# EAGLE library part LAN8742A (library mchair)
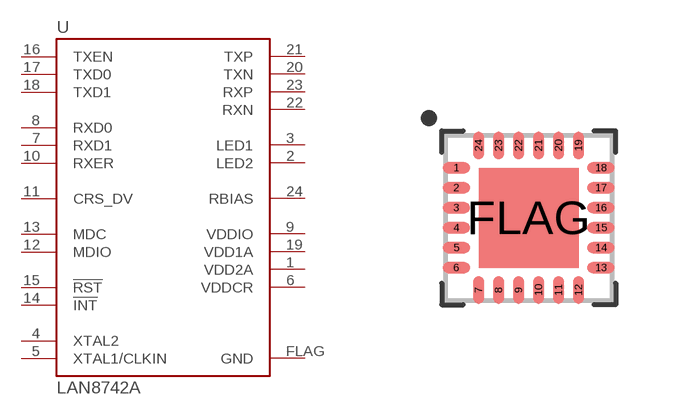
[diagram p5: symbol with the pads of VQFN24; footprint VQFN24]

Designator prefix U

## LAN8742A  [VQFN24]
1  VDD2A
2  LED2
3  LED1
4  XTAL2
5  XTAL1/CLKIN
6  VDDCR
7  RXD1
8  RXD0
9  VDDIO
10  RXER
11  CRS_DV
12  MDIO
13  MDC
14  !INT
15  !RST
16  TXEN
17  TXD0
18  TXD1
19  VDD1A
20  TXN
21  TXP
22  RXN
23  RXP
24  RBIAS
FLAG  GND

## Footprint VQFN24 (pad centres in mm)
24-QFN, 0.5 mm pitch, 4 X 4 X 1 mm body 24-pin QFN package with 0.5 mm pitch with body size 4 X 4 X 1 mm
smd 0.69 x 0.28: 1 -1.81,1.25; 2 -1.81,0.75; 3 -1.81,0.25; 4 -1.81,-0.25; 5 -1.81,-0.75; 6 -1.81,-1.25; 13 1.81,-1.25; 14 1.81,-0.75; 15 1.81,-0.25; 16 1.81,0.25; 17 1.81,0.75; 18 1.81,1.25
smd 0.28 x 0.69: 7 -1.25,-1.81; 8 -0.75,-1.81; 9 -0.25,-1.81; 10 0.25,-1.81; 11 0.75,-1.81; 12 1.25,-1.81; 19 1.25,1.81; 20 0.75,1.81; 21 0.25,1.81; 22 -0.25,1.81; 23 -0.75,1.81; 24 -1.25,1.81
smd 2.5 x 2.5: FLAG 0,0